# Altium schematic symbol library Pads.SchLib: 4 symbols
Pins are listed as number, name and electrical type; pins without a type are passive.

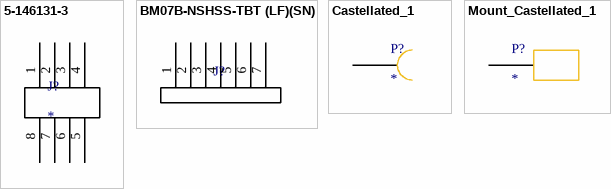
[diagram p0: symbols 5-146131-3 to Mount_Castellated_1]

## 5-146131-3
designator J?
footprint 5-146131-3
pins: 1, 2, 3, 4, 5, 6, 7, 8

## BM07B-NSHSS-TBT (LF)(SN)
designator J?  (value not drawn)
footprint BM07B-NSHSS-TBT (LF)(SN)
pins: 1 0, 2 0, 3 0, 4 0, 5 0, 6 0, 7 0

## Castellated_1
designator P?
footprint castellated_1
pins: 0

## Mount_Castellated_1
designator P?
footprint MOUNT_CASTELLATED_1
pins: 0